# Altium footprint library CMT-0904-83T.PcbLib: 1 footprints
Each footprint in its own frame and in the unit in brackets; x right, y up, seen from the top. Pads: shape width x height; smd on the part's side, far side on the other; paste and mask are expansions set on the pad; w line width, h text height; cw(c..) or ccw(c..) is an arc to the next point about the centre after c.
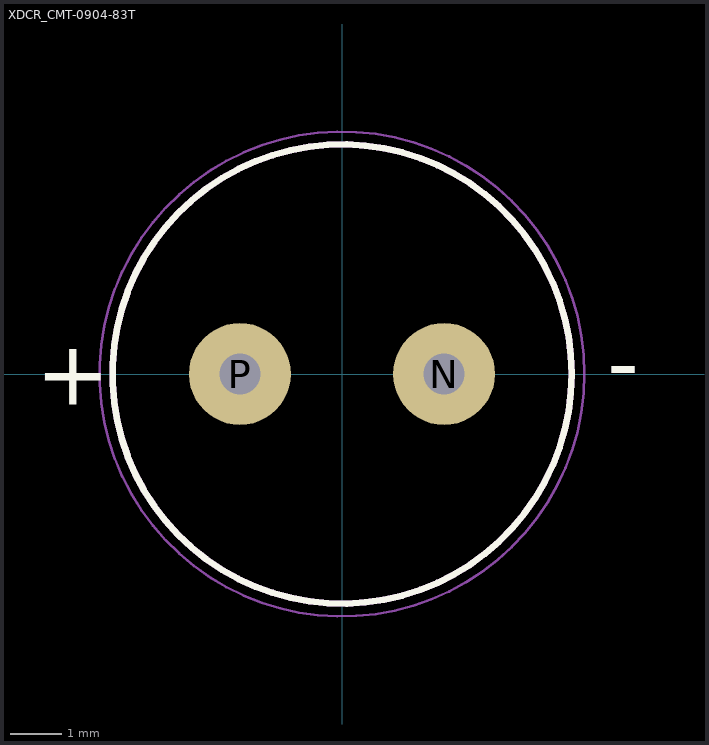
[diagram p0: the footprint, top view; thin cyan lines are the x and y axes]

## XDCR_CMT-0904-83T [mm]
height 5
pads (2):
  round 2 hole 0.8: N(2,0) P(-2,0)
Top Overlay:
  circle w0.127: c0,0 r4.5
  text "-" at 5.2,-0.4 h1.27
  text "+" at -6,-0.6 h1.27
Mechanical 13:
  circle w0.127: c0,0 r4.5
  text "-" at 5.2,-0.4 h1.27
  text "+" at -6,-0.6 h1.27
Mechanical 15:
  circle w0.05: c0,0 r4.75
3D body "CMT-0904-83T.step": height 4.85, standoff -4.45, extent -4.5,-4.5 4.5,4.5